# Altium footprint library oled_lib.PcbLib: 1 footprints
Each footprint in its own frame and in the unit in brackets; x right, y up, seen from the top. Pads: shape width x height; smd on the part's side, far side on the other; paste and mask are expansions set on the pad; w line width, h text height; cw(c..) or ccw(c..) is an arc to the next point about the centre after c.
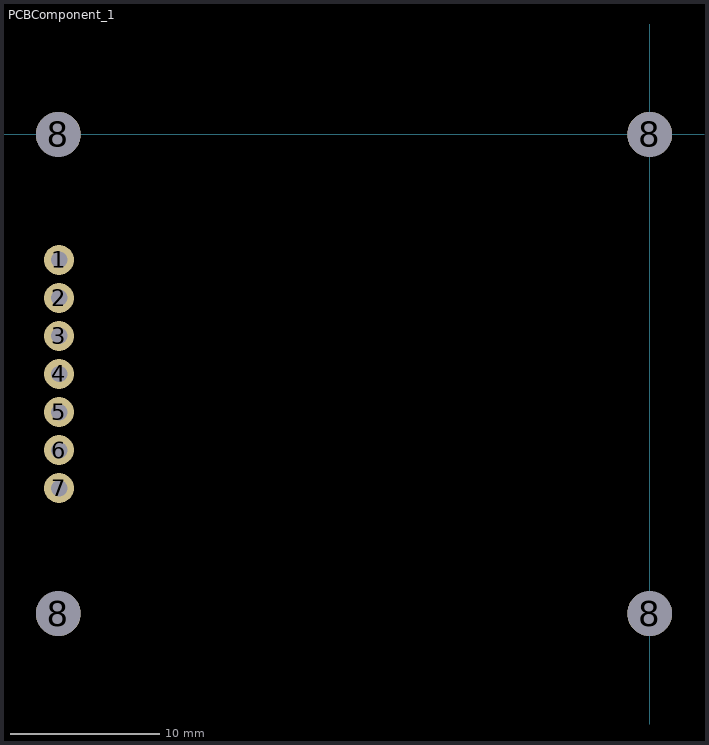
[diagram p0: the footprint, top view; thin cyan lines are the x and y axes]

## PCBComponent_1 [mm]
pads (11):
  round 2 hole 1.1: 1(-39.45,-8.38) 2(-39.45,-10.92) 3(-39.45,-13.46) 4(-39.45,-16) 5(-39.45,-18.54) 6(-39.45,-21.08) 7(-39.45,-23.62)
  round 3 hole 3 unplated: 8(-39.5,-32) 8(-39.5,0) 8(0,-32) 8(0,0)
3D body "0518.stp": height 9.3, standoff 0, extent -41.8,-34.6 3,2.6